# Altium integrated library ON Semi ESD Protection Diodes & Arrays.IntLib: 286 symbols (part 6 of 8)
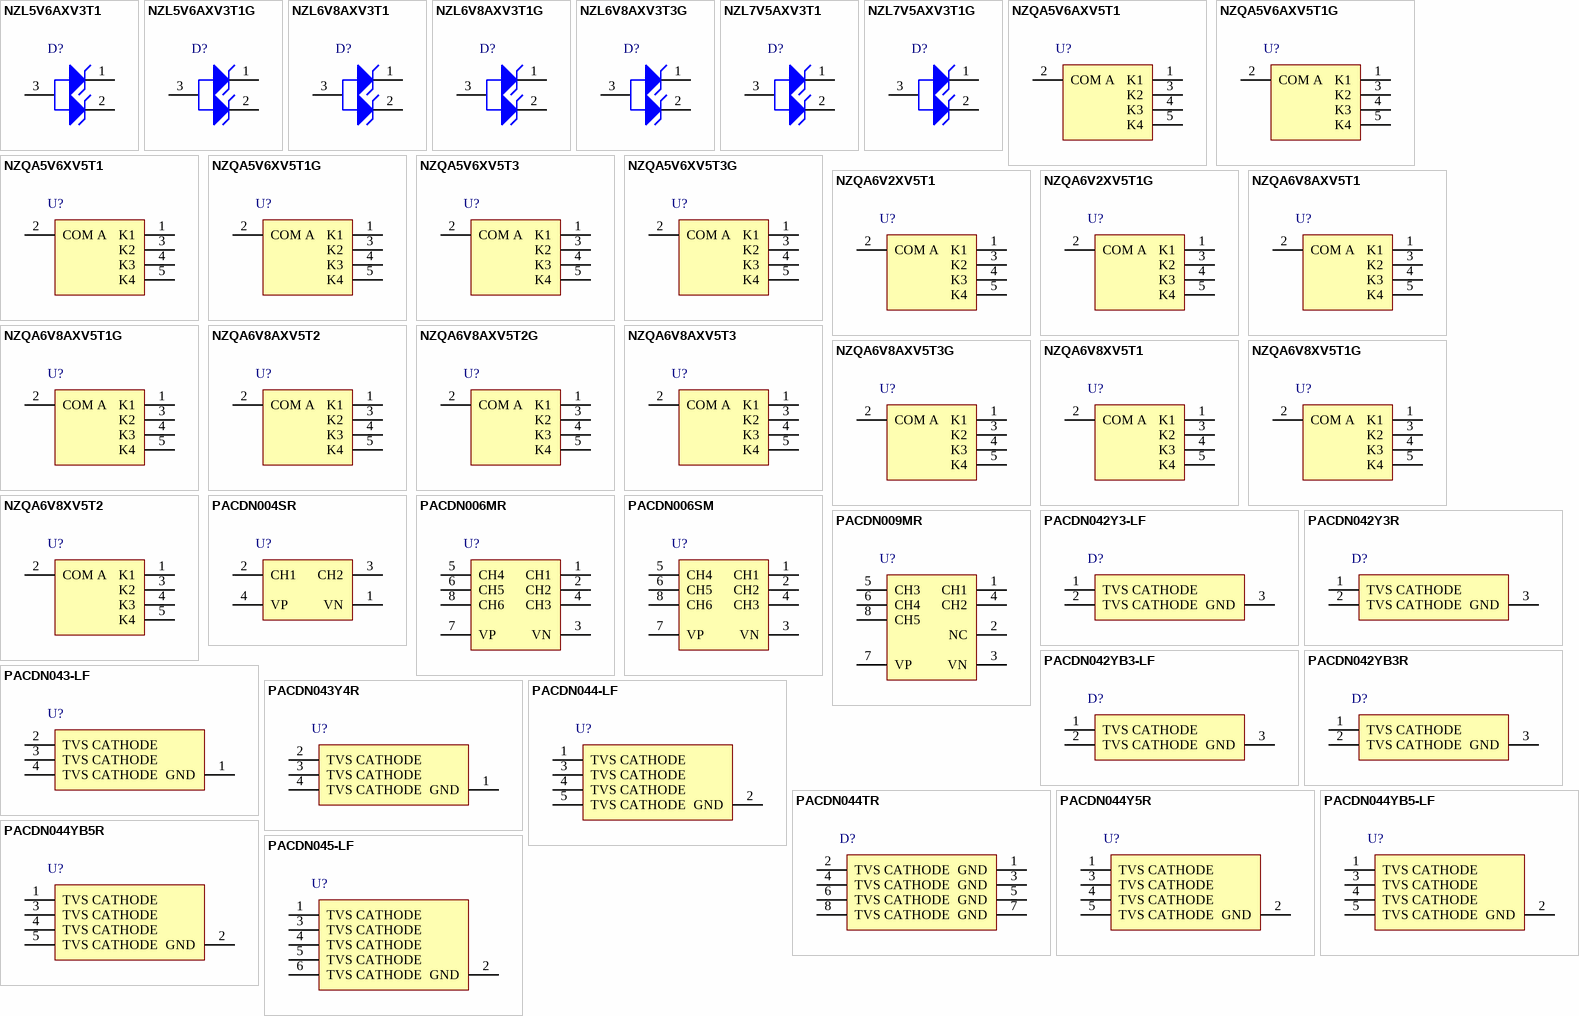
[diagram p12: symbols NZL5V6AXV3T1 to PACDN045-LF]

## NZL5V6AXV3T1G
designator D?
Dual Common Anode ESD Protection Diode, 3-Pin SC-89, Pb-Free, Tape and Reel; Manufacturer: On Semiconductor; PartNumber: NZL5V6AXV3T1G; Direction: Unidirectional; IR Max (uA): 5; Number of Lines: 2; V(BR) Min (V): 5.32; VRWM Max (V): 3; DatasheetVersion: Rev. 5; PackageVersion: Rev. C, 07/2003; PackageReference: SC-89-3-463C-02; PackageDescription: 3-Pin Small Outline Transistor, Body 1.6 x 0.85 mm, Pitch 0.5 mm; Supplier 1: Digi-Key; Supplier Part Number 1: NZL5V6AXV3T1GOSTR-ND; Supplier 2: Digi-Key; Supplier Part Number 2: NZL5V6AXV3T1GOSCT-ND; Supplier 3: Digi-Key; Supplier Part Number 3: NZL5V6AXV3T1GOSDKR-ND; Supplier 4: Newark; Supplier Part Number 4: 10N9595; Supplier 5: Newark; Supplier Part Number 5: 42K2488; Supplier 6: Mouser; Supplier Part Number 6: 863-NZL5V6AXV3T1G; Packing: Tape and Reel; RoHS: Pb-Free; Mounting Technology: Surface Mount; ComponentLink1Description: Manufacturer URL; ComponentLink1URL: http://www.onsemi.com/; ComponentLink2Description: Datasheet; ComponentLink2URL: http://www.onsemi.com/pub_link/Collateral/NZL5V6AXV3T1-D.PDF; ComponentLink3Description: Package Specification; ComponentLink3URL: http://www.onsemi.com/pub_link/Collateral/463C-02.PDF
footprint ONSC-SC-89-3-463C-02_V (SOT23, 3-Leads, Body 1.6x0.85mm, Pitch 0.5mm)
pins: 1 K1, 2 K2, 3 A

## NZL6V8AXV3T1
designator D?
Dual Common Anode ESD Protection Diode, 3-Pin SC-89, Pb-Free, Tape and Reel; Manufacturer: On Semiconductor; PartNumber: NZL6V8AXV3T1; Direction: Unidirectional; IR Max (uA): 1; Number of Lines: 2; V(BR) Min (V): 6.46; VRWM Max (V): 4.5; DatasheetVersion: Rev. 5; PackageVersion: Rev. C, 07/2003; PackageReference: SC-89-3-463C-02; PackageDescription: 3-Pin Small Outline Transistor, Body 1.6 x 0.85 mm, Pitch 0.5 mm; Supplier 1: Digi-Key; Supplier Part Number 1: NZL6V8AXV3T1OSTR-ND; Supplier 2: Digi-Key; Supplier Part Number 2: NZL6V8AXV3T1OSCT-ND; Supplier 3: Mouser; Supplier Part Number 3: N/A; Packing: Tape and Reel; RoHS: Pb-Free; Mounting Technology: Surface Mount; ComponentLink1Description: Manufacturer URL; ComponentLink1URL: http://www.onsemi.com/; ComponentLink2Description: Datasheet; ComponentLink2URL: http://www.onsemi.com/pub_link/Collateral/NZL5V6AXV3T1-D.PDF; ComponentLink3Description: Package Specification; ComponentLink3URL: http://www.onsemi.com/pub_link/Collateral/463C-02.PDF
footprint ONSC-SC-89-3-463C-02_V (SOT23, 3-Leads, Body 1.6x0.85mm, Pitch 0.5mm)
pins: 1 K1, 2 K2, 3 A

## NZL6V8AXV3T1G
designator D?
Dual Common Anode ESD Protection Diode, 3-Pin SC-89, Pb-Free, Tape and Reel; Manufacturer: On Semiconductor; PartNumber: NZL6V8AXV3T1G; Direction: Unidirectional; IR Max (uA): 1; Number of Lines: 2; V(BR) Min (V): 6.46; VRWM Max (V): 4.5; DatasheetVersion: Rev. 5; PackageVersion: Rev. C, 07/2003; PackageReference: SC-89-3-463C-02; PackageDescription: 3-Pin Small Outline Transistor, Body 1.6 x 0.85 mm, Pitch 0.5 mm; Supplier 1: Digi-Key; Supplier Part Number 1: NZL6V8AXV3T1GOSTR-ND; Supplier 2: Digi-Key; Supplier Part Number 2: NZL6V8AXV3T1GOSCT-ND; Supplier 3: Digi-Key; Supplier Part Number 3: NZL6V8AXV3T1GOSDKR-ND; Supplier 4: Newark; Supplier Part Number 4: 10N9596; Supplier 5: Mouser; Supplier Part Number 5: 863-NZL6V8AXV3T1G; Packing: Tape and Reel; RoHS: Pb-Free; Mounting Technology: Surface Mount; ComponentLink1Description: Manufacturer URL; ComponentLink1URL: http://www.onsemi.com/; ComponentLink2Description: Datasheet; ComponentLink2URL: http://www.onsemi.com/pub_link/Collateral/NZL5V6AXV3T1-D.PDF; ComponentLink3Description: Package Specification; ComponentLink3URL: http://www.onsemi.com/pub_link/Collateral/463C-02.PDF
footprint ONSC-SC-89-3-463C-02_V (SOT23, 3-Leads, Body 1.6x0.85mm, Pitch 0.5mm)
pins: 1 K1, 2 K2, 3 A

## NZL6V8AXV3T3G
designator D?
Dual Common Anode ESD Protection Diode, 3-Pin SC-89, Pb-Free, Tape and Reel; Manufacturer: On Semiconductor; PartNumber: NZL6V8AXV3T3G; Direction: Unidirectional; IR Max (uA): 1; Number of Lines: 2; V(BR) Min (V): 6.46; VRWM Max (V): 4.5; DatasheetVersion: Rev. 5; PackageVersion: Rev. C, 07/2003; PackageReference: SC-89-3-463C-02; PackageDescription: 3-Pin Small Outline Transistor, Body 1.6 x 0.85 mm, Pitch 0.5 mm; Supplier 1: Mouser; Supplier Part Number 1: 863-NZL6V8AXV3T3G; Packing: Tape and Reel; RoHS: Pb-Free; Mounting Technology: Surface Mount; ComponentLink1Description: Manufacturer URL; ComponentLink1URL: http://www.onsemi.com/; ComponentLink2Description: Datasheet; ComponentLink2URL: http://www.onsemi.com/pub_link/Collateral/NZL5V6AXV3T1-D.PDF; ComponentLink3Description: Package Specification; ComponentLink3URL: http://www.onsemi.com/pub_link/Collateral/463C-02.PDF
footprint ONSC-SC-89-3-463C-02_V (SOT23, 3-Leads, Body 1.6x0.85mm, Pitch 0.5mm)
pins: 1 K1, 2 K2, 3 A

## NZL7V5AXV3T1
designator D?
Dual Common Anode ESD Protection Diode, 3-Pin SC-89, Pb-Free, Tape and Reel; Manufacturer: On Semiconductor; PartNumber: NZL7V5AXV3T1; Direction: Unidirectional; IR Max (uA): 1; Number of Lines: 2; V(BR) Min (V): 7.12; VRWM Max (V): 5; DatasheetVersion: Rev. 5; PackageVersion: Rev. C, 07/2003; PackageReference: SC-89-3-463C-02; PackageDescription: 3-Pin Small Outline Transistor, Body 1.6 x 0.85 mm, Pitch 0.5 mm; Supplier 1: Digi-Key; Supplier Part Number 1: NZL7V5AXV3T1OSTR-ND; Supplier 2: Digi-Key; Supplier Part Number 2: NZL7V5AXV3T1OSCT-ND; Supplier 3: Mouser; Supplier Part Number 3: N/A; Packing: Tape and Reel; RoHS: Pb-Free; Mounting Technology: Surface Mount; ComponentLink1Description: Manufacturer URL; ComponentLink1URL: http://www.onsemi.com/; ComponentLink2Description: Datasheet; ComponentLink2URL: http://www.onsemi.com/pub_link/Collateral/NZL5V6AXV3T1-D.PDF; ComponentLink3Description: Package Specification; ComponentLink3URL: http://www.onsemi.com/pub_link/Collateral/463C-02.PDF
footprint ONSC-SC-89-3-463C-02_V (SOT23, 3-Leads, Body 1.6x0.85mm, Pitch 0.5mm)
pins: 1 K1, 2 K2, 3 A

## NZL7V5AXV3T1G
designator D?
Dual Common Anode ESD Protection Diode, 3-Pin SC-89, Pb-Free, Tape and Reel; Manufacturer: On Semiconductor; PartNumber: NZL7V5AXV3T1G; Direction: Unidirectional; IR Max (uA): 1; Number of Lines: 2; V(BR) Min (V): 7.12; VRWM Max (V): 5; DatasheetVersion: Rev. 5; PackageVersion: Rev. C, 07/2003; PackageReference: SC-89-3-463C-02; PackageDescription: 3-Pin Small Outline Transistor, Body 1.6 x 0.85 mm, Pitch 0.5 mm; Supplier 1: Digi-Key; Supplier Part Number 1: NZL7V5AXV3T1GOSTR-ND; Supplier 2: Digi-Key; Supplier Part Number 2: NZL7V5AXV3T1GOSCT-ND; Supplier 3: Digi-Key; Supplier Part Number 3: NZL7V5AXV3T1GOSDKR-ND; Supplier 4: Newark; Supplier Part Number 4: 42K2490; Supplier 5: Mouser; Supplier Part Number 5: 863-NZL7V5AXV3T1G; Packing: Tape and Reel; RoHS: Pb-Free; Mounting Technology: Surface Mount; ComponentLink1Description: Manufacturer URL; ComponentLink1URL: http://www.onsemi.com/; ComponentLink2Description: Datasheet; ComponentLink2URL: http://www.onsemi.com/pub_link/Collateral/NZL5V6AXV3T1-D.PDF; ComponentLink3Description: Package Specification; ComponentLink3URL: http://www.onsemi.com/pub_link/Collateral/463C-02.PDF
footprint ONSC-SC-89-3-463C-02_V (SOT23, 3-Leads, Body 1.6x0.85mm, Pitch 0.5mm)
pins: 1 K1, 2 K2, 3 A

## NZQA5V6AXV5T1
designator U?
Transient Voltage Suppressor, ESD Protection Diode with Low Clamping Voltage, 5-Pin SOT-553, Pb-Free, Tape and Reel; Manufacturer: On Semiconductor; PartNumber: NZQA5V6AXV5T1; Direction: Unidirectional; IR Max (uA): 1; Number of Lines: 4; PPK Max (W): 20; V(BR) Min (V): 5.3; VRWM Max (V): 3; DatasheetVersion: Rev. 7; PackageVersion: Rev. B, 05/2005; PackageReference: SOT-553-5-463B_B; PackageDescription: 5-Pin Small Outline Transistor, Body 1.6 x 1.2 mm, Pitch 0.5 mm; Supplier 1: Digi-Key; Supplier Part Number 1: NZQA5V6AXV5T1-ND; Supplier 2: Mouser; Supplier Part Number 2: 863-NZQA5V6AXV5T1; Packing: Tape and Reel; RoHS: Pb-Free; Mounting Technology: Surface Mount; ComponentLink1Description: Manufacturer URL; ComponentLink1URL: http://www.onsemi.com/; ComponentLink2Description: Datasheet; ComponentLink2URL: http://www.onsemi.com/pub_link/Collateral/NZQA5V6AXV5%20SERIES-D.PDF; ComponentLink3Description: Package Specification; ComponentLink3URL: http://www.onsemi.com/pub_link/Collateral/NZQA5V6AXV5%20SERIES-D.PDF
footprint ONSC-SOT-553-5-463B_B_V (SOT23, 5-Leads, Body 1.6x1.2mm, Pitch 0.5mm)
pins: 1 K1, 2 COM A, 3 K2, 4 K3, 5 K4

## NZQA5V6AXV5T1G
designator U?
Transient Voltage Suppressor, ESD Protection Diode with Low Clamping Voltage, 5-Pin SOT-553, Pb-Free, Tape and Reel; Manufacturer: On Semiconductor; PartNumber: NZQA5V6AXV5T1G; Direction: Unidirectional; IR Max (uA): 1; Number of Lines: 4; PPK Max (W): 20; V(BR) Min (V): 5.3; VRWM Max (V): 3; DatasheetVersion: Rev. 7; PackageVersion: Rev. B, 05/2005; PackageReference: SOT-553-5-463B_B; PackageDescription: 5-Pin Small Outline Transistor, Body 1.6 x 1.2 mm, Pitch 0.5 mm; Supplier 1: Digi-Key; Supplier Part Number 1: NZQA5V6AXV5T1GOSTR-ND; Supplier 2: Digi-Key; Supplier Part Number 2: NZQA5V6AXV5T1GOSCT-ND; Supplier 3: Digi-Key; Supplier Part Number 3: NZQA5V6AXV5T1GOSDKR-ND; Supplier 4: Newark; Supplier Part Number 4: 10N9728; Supplier 5: Mouser; Supplier Part Number 5: 863-NZQA5V6AXV5T1G; Packing: Tape and Reel; RoHS: Pb-Free; Mounting Technology: Surface Mount; ComponentLink1Description: Manufacturer URL; ComponentLink1URL: http://www.onsemi.com/; ComponentLink2Description: Datasheet; ComponentLink2URL: http://www.onsemi.com/pub_link/Collateral/NZQA5V6AXV5%20SERIES-D.PDF; ComponentLink3Description: Package Specification; ComponentLink3URL: http://www.onsemi.com/pub_link/Collateral/NZQA5V6AXV5%20SERIES-D.PDF
footprint ONSC-SOT-553-5-463B_B_V (SOT23, 5-Leads, Body 1.6x1.2mm, Pitch 0.5mm)
pins: 1 K1, 2 COM A, 3 K2, 4 K3, 5 K4

## NZQA5V6XV5T1
designator U?
Quad Array for ESD Protection, 5-Pin SOT-553, Pb-Free, Tape and Reel; Manufacturer: On Semiconductor; PartNumber: NZQA5V6XV5T1; C Max (pF): 90; Direction: Unidirectional; IR Max (uA): 1; Number of Lines: 4; PPK Max (W): 100; V(BR) Min (V): 5.32; VRWM Max (V): 3; DatasheetVersion: Rev. 3; PackageVersion: Rev. B, 05/2005; PackageReference: SOT-553-5-463B_B; PackageDescription: 5-Pin Small Outline Transistor, Body 1.6 x 1.2 mm, Pitch 0.5 mm; Supplier 1: Digi-Key; Supplier Part Number 1: NZQA5V6XV5T1OS-ND; Supplier 2: Mouser; Supplier Part Number 2: 863-NZQA5V6XV5T1; Packing: Tape and Reel; RoHS: Pb-Free; Mounting Technology: Surface Mount; ComponentLink1Description: Manufacturer URL; ComponentLink1URL: http://www.onsemi.com/; ComponentLink2Description: Datasheet; ComponentLink2URL: http://www.onsemi.com/pub_link/Collateral/NZQA5V6XV5T1-D.PDF; ComponentLink3Description: Package Specification; ComponentLink3URL: http://www.onsemi.com/pub_link/Collateral/NZQA5V6AXV5%20SERIES-D.PDF
footprint ONSC-SOT-553-5-463B_B_V (SOT23, 5-Leads, Body 1.6x1.2mm, Pitch 0.5mm)
pins: 1 K1, 2 COM A, 3 K2, 4 K3, 5 K4

## NZQA5V6XV5T1G
designator U?
Quad Array for ESD Protection, 5-Pin SOT-553, Pb-Free, Tape and Reel; Manufacturer: On Semiconductor; PartNumber: NZQA5V6XV5T1G; C Max (pF): 90; Direction: Unidirectional; IR Max (uA): 1; Number of Lines: 4; PPK Max (W): 100; V(BR) Min (V): 5.32; VRWM Max (V): 3; DatasheetVersion: Rev. 3; PackageVersion: Rev. B, 05/2005; PackageReference: SOT-553-5-463B_B; PackageDescription: 5-Pin Small Outline Transistor, Body 1.6 x 1.2 mm, Pitch 0.5 mm; Supplier 1: Digi-Key; Supplier Part Number 1: NZQA5V6XV5T1GOSTR-ND; Supplier 2: Digi-Key; Supplier Part Number 2: NZQA5V6XV5T1GOSCT-ND; Supplier 3: Digi-Key; Supplier Part Number 3: NZQA5V6XV5T1GOSDKR-ND; Supplier 4: Farnell; Supplier Part Number 4: 1899526; Supplier 5: Newark; Supplier Part Number 5: 09R9675; Supplier 6: Mouser; Supplier Part Number 6: 863-NZQA5V6XV5T1G; Packing: Tape and Reel; RoHS: Pb-Free; Mounting Technology: Surface Mount; ComponentLink1Description: Manufacturer URL; ComponentLink1URL: http://www.onsemi.com/; ComponentLink2Description: Datasheet; ComponentLink2URL: http://www.onsemi.com/pub_link/Collateral/NZQA5V6XV5T1-D.PDF; ComponentLink3Description: Package Specification; ComponentLink3URL: http://www.onsemi.com/pub_link/Collateral/NZQA5V6AXV5%20SERIES-D.PDF
footprint ONSC-SOT-553-5-463B_B_V (SOT23, 5-Leads, Body 1.6x1.2mm, Pitch 0.5mm)
pins: 1 K1, 2 COM A, 3 K2, 4 K3, 5 K4

## NZQA5V6XV5T3
designator U?
Quad Array for ESD Protection, 5-Pin SOT-553, Pb-Free, Tape and Reel; Manufacturer: On Semiconductor; PartNumber: NZQA5V6XV5T3; C Max (pF): 90; Direction: Unidirectional; IR Max (uA): 1; Number of Lines: 4; PPK Max (W): 100; V(BR) Min (V): 5.32; VRWM Max (V): 3; DatasheetVersion: Rev. 3; PackageVersion: Rev. B, 05/2005; PackageReference: SOT-553-5-463B_B; PackageDescription: 5-Pin Small Outline Transistor, Body 1.6 x 1.2 mm, Pitch 0.5 mm; Supplier 1: Digi-Key; Supplier Part Number 1: NZQA5V6XV5T3-ND; Supplier 2: Mouser; Supplier Part Number 2: 863-NZQA5V6XV5T3; Packing: Tape and Reel; RoHS: Pb-Free; Mounting Technology: Surface Mount; ComponentLink1Description: Manufacturer URL; ComponentLink1URL: http://www.onsemi.com/; ComponentLink2Description: Datasheet; ComponentLink2URL: http://www.onsemi.com/pub_link/Collateral/NZQA5V6XV5T1-D.PDF; ComponentLink3Description: Package Specification; ComponentLink3URL: http://www.onsemi.com/pub_link/Collateral/NZQA5V6AXV5%20SERIES-D.PDF
footprint ONSC-SOT-553-5-463B_B_V (SOT23, 5-Leads, Body 1.6x1.2mm, Pitch 0.5mm)
pins: 1 K1, 2 COM A, 3 K2, 4 K3, 5 K4

## NZQA5V6XV5T3G
designator U?
Quad Array for ESD Protection, 5-Pin SOT-553, Pb-Free, Tape and Reel; Manufacturer: On Semiconductor; PartNumber: NZQA5V6XV5T3G; C Max (pF): 90; Direction: Unidirectional; IR Max (uA): 1; Number of Lines: 4; PPK Max (W): 100; V(BR) Min (V): 5.32; VRWM Max (V): 3; DatasheetVersion: Rev. 3; PackageVersion: Rev. B, 05/2005; PackageReference: SOT-553-5-463B_B; PackageDescription: 5-Pin Small Outline Transistor, Body 1.6 x 1.2 mm, Pitch 0.5 mm; Supplier 1: Digi-Key; Supplier Part Number 1: NZQA5V6XV5T3G-ND; Supplier 2: Mouser; Supplier Part Number 2: 863-NZQA5V6XV5T3G; Packing: Tape and Reel; RoHS: Pb-Free; Mounting Technology: Surface Mount; ComponentLink1Description: Manufacturer URL; ComponentLink1URL: http://www.onsemi.com/; ComponentLink2Description: Datasheet; ComponentLink2URL: http://www.onsemi.com/pub_link/Collateral/NZQA5V6XV5T1-D.PDF; ComponentLink3Description: Package Specification; ComponentLink3URL: http://www.onsemi.com/pub_link/Collateral/NZQA5V6AXV5%20SERIES-D.PDF
footprint ONSC-SOT-553-5-463B_B_V (SOT23, 5-Leads, Body 1.6x1.2mm, Pitch 0.5mm)
pins: 1 K1, 2 COM A, 3 K2, 4 K3, 5 K4

## NZQA6V2XV5T1
designator U?
Quad Array for ESD Protection, 5-Pin SOT-553, Pb-Free, Tape and Reel; Manufacturer: On Semiconductor; PartNumber: NZQA6V2XV5T1; C Max (pF): 80; Direction: Unidirectional; IR Max (uA): 0.5; Number of Lines: 4; PPK Max (W): 100; V(BR) Min (V): 5.89; DatasheetVersion: Rev. 3; PackageVersion: Rev. B, 05/2005; PackageReference: SOT-553-5-463B_B; PackageDescription: 5-Pin Small Outline Transistor, Body 1.6 x 1.2 mm, Pitch 0.5 mm; Supplier 1: Digi-Key; Supplier Part Number 1: NZQA6V2XV5T1OS-ND; Supplier 2: Mouser; Supplier Part Number 2: N/A; Packing: Tape and Reel; RoHS: Pb-Free; VRWM Max (V): 4; Mounting Technology: Surface Mount; ComponentLink1Description: Manufacturer URL; ComponentLink1URL: http://www.onsemi.com/; ComponentLink2Description: Datasheet; ComponentLink2URL: http://www.onsemi.com/pub_link/Collateral/NZQA5V6XV5T1-D.PDF; ComponentLink3Description: Package Specification; ComponentLink3URL: http://www.onsemi.com/pub_link/Collateral/NZQA5V6AXV5%20SERIES-D.PDF
footprint ONSC-SOT-553-5-463B_B_V (SOT23, 5-Leads, Body 1.6x1.2mm, Pitch 0.5mm)
pins: 1 K1, 2 COM A, 3 K2, 4 K3, 5 K4

## NZQA6V2XV5T1G
designator U?
Quad Array for ESD Protection, 5-Pin SOT-553, Pb-Free, Tape and Reel; Manufacturer: On Semiconductor; PartNumber: NZQA6V2XV5T1G; C Max (pF): 80; Direction: Unidirectional; IR Max (uA): 0.5; Number of Lines: 4; PPK Max (W): 100; V(BR) Min (V): 5.89; DatasheetVersion: Rev. 3; PackageVersion: Rev. B, 05/2005; PackageReference: SOT-553-5-463B_B; PackageDescription: 5-Pin Small Outline Transistor, Body 1.6 x 1.2 mm, Pitch 0.5 mm; Supplier 1: Digi-Key; Supplier Part Number 1: NZQA6V2XV5T1G-ND; Supplier 2: Mouser; Supplier Part Number 2: 863-NZQA6V2XV5T1G; Packing: Tape and Reel; RoHS: Pb-Free; VRWM Max (V): 4; Mounting Technology: Surface Mount; ComponentLink1Description: Manufacturer URL; ComponentLink1URL: http://www.onsemi.com/; ComponentLink2Description: Datasheet; ComponentLink2URL: http://www.onsemi.com/pub_link/Collateral/NZQA5V6XV5T1-D.PDF; ComponentLink3Description: Package Specification; ComponentLink3URL: http://www.onsemi.com/pub_link/Collateral/NZQA5V6AXV5%20SERIES-D.PDF
footprint ONSC-SOT-553-5-463B_B_V (SOT23, 5-Leads, Body 1.6x1.2mm, Pitch 0.5mm)
pins: 1 K1, 2 COM A, 3 K2, 4 K3, 5 K4

## NZQA6V8AXV5T1
designator U?
Transient Voltage Suppressor, ESD Protection Diode with Low Clamping Voltage, 5-Pin SOT-553, Pb-Free, Tape and Reel; Manufacturer: On Semiconductor; PartNumber: NZQA6V8AXV5T1; Direction: Unidirectional; IR Max (uA): 1; Number of Lines: 4; PPK Max (W): 20; V(BR) Min (V): 6.47; VRWM Max (V): 4.3; DatasheetVersion: Rev. 7; PackageVersion: Rev. B, 05/2005; PackageReference: SOT-553-5-463B_B; PackageDescription: 5-Pin Small Outline Transistor, Body 1.6 x 1.2 mm, Pitch 0.5 mm; Supplier 1: Digi-Key; Supplier Part Number 1: NZQA6V8AXV5T1OS-ND; Supplier 2: Mouser; Supplier Part Number 2: 863-NZQA6V8AXV5T1; Packing: Tape and Reel; RoHS: Pb-Free; Mounting Technology: Surface Mount; ComponentLink1Description: Manufacturer URL; ComponentLink1URL: http://www.onsemi.com/; ComponentLink2Description: Datasheet; ComponentLink2URL: http://www.onsemi.com/pub_link/Collateral/NZQA5V6AXV5%20SERIES-D.PDF; ComponentLink3Description: Package Specification; ComponentLink3URL: http://www.onsemi.com/pub_link/Collateral/NZQA5V6AXV5%20SERIES-D.PDF
footprint ONSC-SOT-553-5-463B_B_V (SOT23, 5-Leads, Body 1.6x1.2mm, Pitch 0.5mm)
pins: 1 K1, 2 COM A, 3 K2, 4 K3, 5 K4

## NZQA6V8AXV5T1G
designator U?
Transient Voltage Suppressor, ESD Protection Diode with Low Clamping Voltage, 5-Pin SOT-553, Pb-Free, Tape and Reel; Manufacturer: On Semiconductor; PartNumber: NZQA6V8AXV5T1G; Direction: Unidirectional; IR Max (uA): 1; Number of Lines: 4; PPK Max (W): 20; V(BR) Min (V): 6.47; VRWM Max (V): 4.3; DatasheetVersion: Rev. 7; PackageVersion: Rev. B, 05/2005; PackageReference: SOT-553-5-463B_B; PackageDescription: 5-Pin Small Outline Transistor, Body 1.6 x 1.2 mm, Pitch 0.5 mm; Supplier 1: Digi-Key; Supplier Part Number 1: NZQA6V8AXV5T1GOSTR-ND; Supplier 2: Digi-Key; Supplier Part Number 2: NZQA6V8AXV5T1GOSCT-ND; Supplier 3: Digi-Key; Supplier Part Number 3: NZQA6V8AXV5T1GOSDKR-ND; Supplier 4: Mouser; Supplier Part Number 4: 863-NZQA6V8AXV5T1G; Packing: Tape and Reel; RoHS: Pb-Free; Mounting Technology: Surface Mount; ComponentLink1Description: Manufacturer URL; ComponentLink1URL: http://www.onsemi.com/; ComponentLink2Description: Datasheet; ComponentLink2URL: http://www.onsemi.com/pub_link/Collateral/NZQA5V6AXV5%20SERIES-D.PDF; ComponentLink3Description: Package Specification; ComponentLink3URL: http://www.onsemi.com/pub_link/Collateral/NZQA5V6AXV5%20SERIES-D.PDF
footprint ONSC-SOT-553-5-463B_B_V (SOT23, 5-Leads, Body 1.6x1.2mm, Pitch 0.5mm)
pins: 1 K1, 2 COM A, 3 K2, 4 K3, 5 K4

## NZQA6V8AXV5T2
designator U?
Transient Voltage Suppressor, ESD Protection Diode with Low Clamping Voltage, 5-Pin SOT-553, Pb-Free, Tape and Reel; Manufacturer: On Semiconductor; PartNumber: NZQA6V8AXV5T2; Direction: Unidirectional; IR Max (uA): 1; Number of Lines: 4; PPK Max (W): 20; V(BR) Min (V): 6.47; VRWM Max (V): 4.3; DatasheetVersion: Rev. 7; PackageVersion: Rev. B, 05/2005; PackageReference: SOT-553-5-463B_B; PackageDescription: 5-Pin Small Outline Transistor, Body 1.6 x 1.2 mm, Pitch 0.5 mm; Supplier 1: Digi-Key; Supplier Part Number 1: NZQA6V8AXV5T2-ND; Supplier 2: Mouser; Supplier Part Number 2: 863-NZQA6V8AXV5T2; Packing: Tape and Reel; RoHS: Pb-Free; Mounting Technology: Surface Mount; ComponentLink1Description: Manufacturer URL; ComponentLink1URL: http://www.onsemi.com/; ComponentLink2Description: Datasheet; ComponentLink2URL: http://www.onsemi.com/pub_link/Collateral/NZQA5V6AXV5%20SERIES-D.PDF; ComponentLink3Description: Package Specification; ComponentLink3URL: http://www.onsemi.com/pub_link/Collateral/NZQA5V6AXV5%20SERIES-D.PDF
footprint ONSC-SOT-553-5-463B_B_V (SOT23, 5-Leads, Body 1.6x1.2mm, Pitch 0.5mm)
pins: 1 K1, 2 COM A, 3 K2, 4 K3, 5 K4

## NZQA6V8AXV5T2G
designator U?
Transient Voltage Suppressor, ESD Protection Diode with Low Clamping Voltage, 5-Pin SOT-553, Pb-Free, Tape and Reel; Manufacturer: On Semiconductor; PartNumber: NZQA6V8AXV5T2G; Direction: Unidirectional; IR Max (uA): 1; Number of Lines: 4; PPK Max (W): 20; V(BR) Min (V): 6.47; VRWM Max (V): 4.3; DatasheetVersion: Rev. 7; PackageVersion: Rev. B, 05/2005; PackageReference: SOT-553-5-463B_B; PackageDescription: 5-Pin Small Outline Transistor, Body 1.6 x 1.2 mm, Pitch 0.5 mm; Supplier 1: Digi-Key; Supplier Part Number 1: NZQA6V8AXV5T2G-ND; Supplier 2: Mouser; Supplier Part Number 2: 863-NZQA6V8AXV5T2G; Packing: Tape and Reel; RoHS: Pb-Free; Mounting Technology: Surface Mount; ComponentLink1Description: Manufacturer URL; ComponentLink1URL: http://www.onsemi.com/; ComponentLink2Description: Datasheet; ComponentLink2URL: http://www.onsemi.com/pub_link/Collateral/NZQA5V6AXV5%20SERIES-D.PDF; ComponentLink3Description: Package Specification; ComponentLink3URL: http://www.onsemi.com/pub_link/Collateral/NZQA5V6AXV5%20SERIES-D.PDF
footprint ONSC-SOT-553-5-463B_B_V (SOT23, 5-Leads, Body 1.6x1.2mm, Pitch 0.5mm)
pins: 1 K1, 2 COM A, 3 K2, 4 K3, 5 K4

## NZQA6V8AXV5T3
designator U?
Transient Voltage Suppressor, ESD Protection Diode with Low Clamping Voltage, 5-Pin SOT-553, Pb-Free, Tape and Reel; Manufacturer: On Semiconductor; PartNumber: NZQA6V8AXV5T3; Direction: Unidirectional; IR Max (uA): 1; Number of Lines: 4; PPK Max (W): 20; V(BR) Min (V): 6.47; VRWM Max (V): 4.3; DatasheetVersion: Rev. 7; PackageVersion: Rev. B, 05/2005; PackageReference: SOT-553-5-463B_B; PackageDescription: 5-Pin Small Outline Transistor, Body 1.6 x 1.2 mm, Pitch 0.5 mm; Supplier 1: Digi-Key; Supplier Part Number 1: NZQA6V8AXV5T3-ND; Supplier 2: Mouser; Supplier Part Number 2: 863-NZQA6V8AXV5T3; Packing: Tape and Reel; RoHS: Pb-Free; Mounting Technology: Surface Mount; ComponentLink1Description: Manufacturer URL; ComponentLink1URL: http://www.onsemi.com/; ComponentLink2Description: Datasheet; ComponentLink2URL: http://www.onsemi.com/pub_link/Collateral/NZQA5V6AXV5%20SERIES-D.PDF; ComponentLink3Description: Package Specification; ComponentLink3URL: http://www.onsemi.com/pub_link/Collateral/NZQA5V6AXV5%20SERIES-D.PDF
footprint ONSC-SOT-553-5-463B_B_V (SOT23, 5-Leads, Body 1.6x1.2mm, Pitch 0.5mm)
pins: 1 K1, 2 COM A, 3 K2, 4 K3, 5 K4

## NZQA6V8AXV5T3G
designator U?
Transient Voltage Suppressor, ESD Protection Diode with Low Clamping Voltage, 5-Pin SOT-553, Pb-Free, Tape and Reel; Manufacturer: On Semiconductor; PartNumber: NZQA6V8AXV5T3G; Direction: Unidirectional; IR Max (uA): 1; Number of Lines: 4; PPK Max (W): 20; V(BR) Min (V): 6.47; VRWM Max (V): 4.3; DatasheetVersion: Rev. 7; PackageVersion: Rev. B, 05/2005; PackageReference: SOT-553-5-463B_B; PackageDescription: 5-Pin Small Outline Transistor, Body 1.6 x 1.2 mm, Pitch 0.5 mm; Supplier 1: Digi-Key; Supplier Part Number 1: NZQA6V8AXV5T3GOSTR-ND; Supplier 2: Digi-Key; Supplier Part Number 2: NZQA6V8AXV5T3GOSCT-ND; Supplier 3: Mouser; Supplier Part Number 3: 863-NZQA6V8AXV5T3G; Packing: Tape and Reel; RoHS: Pb-Free; Mounting Technology: Surface Mount; ComponentLink1Description: Manufacturer URL; ComponentLink1URL: http://www.onsemi.com/; ComponentLink2Description: Datasheet; ComponentLink2URL: http://www.onsemi.com/pub_link/Collateral/NZQA5V6AXV5%20SERIES-D.PDF; ComponentLink3Description: Package Specification; ComponentLink3URL: http://www.onsemi.com/pub_link/Collateral/NZQA5V6AXV5%20SERIES-D.PDF
footprint ONSC-SOT-553-5-463B_B_V (SOT23, 5-Leads, Body 1.6x1.2mm, Pitch 0.5mm)
pins: 1 K1, 2 COM A, 3 K2, 4 K3, 5 K4

## NZQA6V8XV5T1
designator U?
Quad Array for ESD Protection, 5-Pin SOT-553, Pb-Free, Tape and Reel; Manufacturer: On Semiconductor; PartNumber: NZQA6V8XV5T1; C Max (pF): 70; Direction: Unidirectional; IR Max (uA): 0.1; Number of Lines: 4; PPK Max (W): 100; V(BR) Min (V): 6.46; VRWM Max (V): 4.3; DatasheetVersion: Rev. 3; PackageVersion: Rev. B, 05/2005; PackageReference: SOT-553-5-463B_B; PackageDescription: 5-Pin Small Outline Transistor, Body 1.6 x 1.2 mm, Pitch 0.5 mm; Supplier 1: Digi-Key; Supplier Part Number 1: NZQA6V8XV5T1OS-ND; Supplier 2: Mouser; Supplier Part Number 2: 863-NZQA6V8XV5T1; Packing: Tape and Reel; RoHS: Pb-Free; Mounting Technology: Surface Mount; ComponentLink1Description: Manufacturer URL; ComponentLink1URL: http://www.onsemi.com/; ComponentLink2Description: Datasheet; ComponentLink2URL: http://www.onsemi.com/pub_link/Collateral/NZQA5V6XV5T1-D.PDF; ComponentLink3Description: Package Specification; ComponentLink3URL: http://www.onsemi.com/pub_link/Collateral/NZQA5V6AXV5%20SERIES-D.PDF
footprint ONSC-SOT-553-5-463B_B_V (SOT23, 5-Leads, Body 1.6x1.2mm, Pitch 0.5mm)
pins: 1 K1, 2 COM A, 3 K2, 4 K3, 5 K4

## NZQA6V8XV5T1G
designator U?
Quad Array for ESD Protection, 5-Pin SOT-553, Pb-Free, Tape and Reel; Manufacturer: On Semiconductor; PartNumber: NZQA6V8XV5T1G; C Max (pF): 70; Direction: Unidirectional; IR Max (uA): 0.1; Number of Lines: 4; PPK Max (W): 100; V(BR) Min (V): 6.46; VRWM Max (V): 4.3; DatasheetVersion: Rev. 3; PackageVersion: Rev. B, 05/2005; PackageReference: SOT-553-5-463B_B; PackageDescription: 5-Pin Small Outline Transistor, Body 1.6 x 1.2 mm, Pitch 0.5 mm; Supplier 1: Digi-Key; Supplier Part Number 1: NZQA6V8XV5T1GOSTR-ND; Supplier 2: Digi-Key; Supplier Part Number 2: NZQA6V8XV5T1GOSCT-ND; Supplier 3: Mouser; Supplier Part Number 3: 863-NZQA6V8XV5T1G; Packing: Tape and Reel; RoHS: Pb-Free; Mounting Technology: Surface Mount; ComponentLink1Description: Manufacturer URL; ComponentLink1URL: http://www.onsemi.com/; ComponentLink2Description: Datasheet; ComponentLink2URL: http://www.onsemi.com/pub_link/Collateral/NZQA5V6XV5T1-D.PDF; ComponentLink3Description: Package Specification; ComponentLink3URL: http://www.onsemi.com/pub_link/Collateral/NZQA5V6AXV5%20SERIES-D.PDF
footprint ONSC-SOT-553-5-463B_B_V (SOT23, 5-Leads, Body 1.6x1.2mm, Pitch 0.5mm)
pins: 1 K1, 2 COM A, 3 K2, 4 K3, 5 K4

## NZQA6V8XV5T2
designator U?
Quad Array for ESD Protection, 5-Pin SOT-553, Pb-Free, Tape and Reel; Manufacturer: On Semiconductor; PartNumber: NZQA6V8XV5T2; C Max (pF): 70; Direction: Unidirectional; IR Max (uA): 0.1; Number of Lines: 4; PPK Max (W): 100; V(BR) Min (V): 6.46; VRWM Max (V): 4.3; DatasheetVersion: Rev. 3; PackageVersion: Rev. B, 05/2005; PackageReference: SOT-553-5-463B_B; PackageDescription: 5-Pin Small Outline Transistor, Body 1.6 x 1.2 mm, Pitch 0.5 mm; Supplier 1: Digi-Key; Supplier Part Number 1: NZQA6V8XV5T2-ND; Supplier 2: Newark; Supplier Part Number 2: 45J2209; Supplier 3: Mouser; Supplier Part Number 3: 863-NZQA6V8XV5T2; Packing: Tape and Reel; RoHS: Pb-Free; Mounting Technology: Surface Mount; ComponentLink1Description: Manufacturer URL; ComponentLink1URL: http://www.onsemi.com/; ComponentLink2Description: Datasheet; ComponentLink2URL: http://www.onsemi.com/pub_link/Collateral/NZQA5V6XV5T1-D.PDF; ComponentLink3Description: Package Specification; ComponentLink3URL: http://www.onsemi.com/pub_link/Collateral/NZQA5V6AXV5%20SERIES-D.PDF
footprint ONSC-SOT-553-5-463B_B_V (SOT23, 5-Leads, Body 1.6x1.2mm, Pitch 0.5mm)
pins: 1 K1, 2 COM A, 3 K2, 4 K3, 5 K4

## PACDN004SR
designator U?
2-Channel ESD Protection Array, 4-Pin SOT-143, Pb-Free, Tape and Reel; Manufacturer: On Semiconductor; PartNumber: PACDN004SR; C Max (pF): 5; Direction: Unidirectional; IR Max (uA): 1; Number of Lines: 2; PPK Max (W): 0.225; DatasheetVersion: Rev. 4; PackageVersion: Rev. A, 03/2009; PackageReference: SOT-143-4-527AF-01; PackageDescription: 4-Pin Small Outline Transistor, Body 2.92 x 1.3 mm, Pitch 1.92 mm; Supplier 1: Digi-Key; Supplier Part Number 1: PACDN004SROSTR-ND; Supplier 2: Digi-Key; Supplier Part Number 2: PACDN004SROSCT-ND; Supplier 3: Digi-Key; Supplier Part Number 3: PACDN004SROSDKR-ND; Supplier 4: Newark; Supplier Part Number 4: 99R2893; Supplier 5: Mouser; Supplier Part Number 5: 748-PACDN004SR; Packing: Tape and Reel; RoHS: Pb-Free; Mounting Technology: Surface Mount; Code_JEDEC: TO-253; ComponentLink1Description: Manufacturer URL; ComponentLink1URL: http://www.onsemi.com/; ComponentLink2Description: Datasheet; ComponentLink2URL: http://www.onsemi.com/pub_link/Collateral/PACDN004-D.PDF; ComponentLink3Description: Package Specification; ComponentLink3URL: http://www.onsemi.com/pub_link/Collateral/527AF.PDF
footprint ONSC-SOT-143-4-527AF-01_N (SOT143, 4-Leads, Body 3.04x1.4mm, Pitch 1.92mm, IPC Medium Density)
footprint ONSC-SOT-143-4-527AF-01_L (SOT143, 4-Leads, Body 3.04x1.4mm, Pitch 1.92mm, IPC High Density)
footprint ONSC-SOT-143-4-527AF-01_M (SOT143, 4-Leads, Body 3.04x1.4mm, Pitch 1.92mm, IPC Low Density)
pins: 1 VN (power) "Negative Voltage Supply Rail or Ground Reference Rail", 2 CH1 "ESD Channel 1", 3 CH2 "ESD Channel 2", 4 VP (power) "Positive Voltage Supply Rail"

## PACDN006MR
designator U?
6-Channel ESD Protection Array, 8-Pin MICRO, Pb-Free, Tape and Reel; Manufacturer: On Semiconductor; PartNumber: PACDN006MR; C Max (pF): 5; Direction: Unidirectional; IR Max (uA): 1; Number of Lines: 6; PPK Max (W): 0.2; DatasheetVersion: Rev. 5; PackageVersion: Rev. J, 07/2013; PackageReference: MICRO-8-846A-02; PackageDescription: 8-Pin Small Outline Pacakge, Body 3 x 3 mm, Pitch 0.65 mm; Supplier 1: Digi-Key; Supplier Part Number 1: PACDN006MROSTR-ND; Supplier 2: Digi-Key; Supplier Part Number 2: PACDN006MROSCT-ND; Supplier 3: Digi-Key; Supplier Part Number 3: PACDN006MROSDKR-ND; Supplier 4: Newark; Supplier Part Number 4: 99R2894; Supplier 5: Mouser; Supplier Part Number 5: 748-PACDN006MR; Packing: Tape and Reel; RoHS: Pb-Free; Mounting Technology: Surface Mount; ComponentLink1Description: Manufacturer URL; ComponentLink1URL: http://www.onsemi.com/; ComponentLink2Description: Datasheet; ComponentLink2URL: http://www.onsemi.com/pub_link/Collateral/PACDN006-D.PDF; ComponentLink3Description: Package Specification; ComponentLink3URL: http://www.onsemi.com/pub_link/Collateral/846A-02.PDF
footprint ONSC-MICRO-8-846A-02_V (SOP, 8-Leads, Body 3.1x3.1mm, Pitch 0.65mm)
pins: 1 CH1 "ESD Channel", 2 CH2 "ESD Channel", 3 VN (power) "Negative voltage supply rail", 4 CH3 "ESD Channel", 5 CH4 "ESD Channel", 6 CH5 "ESD Channel", 7 VP (power) "Positive voltage supply rail", 8 CH6 "ESD Channel"

## PACDN006SM
designator U?
6-Channel ESD Protection Array, 8-Pin SOIC, Pb-Free, Tape and Reel; Manufacturer: On Semiconductor; PartNumber: PACDN006SM; C Max (pF): 5; Direction: Unidirectional; IR Max (uA): 1; Number of Lines: 6; PPK Max (W): 0.2; DatasheetVersion: Rev. 5; PackageVersion: Rev. O, 12/2008; PackageReference: SOIC-8-751BD-01; PackageDescription: 8-Pin Small Outline Integrated Circuit, Body 4.9 x 3.9 mm, Pitch 1.27 mm; Supplier 1: Mouser; Supplier Part Number 1: N/A; Packing: Tape and Reel; RoHS: Pb-Free; Mounting Technology: Surface Mount; Code_JEDEC: MS-012; ComponentLink1Description: Manufacturer URL; ComponentLink1URL: http://www.onsemi.com/; ComponentLink2Description: Datasheet; ComponentLink2URL: http://www.onsemi.com/pub_link/Collateral/PACDN006-D.PDF; ComponentLink3Description: Package Specification; ComponentLink3URL: http://www.onsemi.com/pub_link/Collateral/751BD.PDF
footprint ONSC-SOIC-8-751BD-01_N (SOIC, 8-Leads, Body 5x4mm, Pitch 1.27mm, IPC Medium Density)
footprint ONSC-SOIC-8-751BD-01_L (SOIC, 8-Leads, Body 5x4mm, Pitch 1.27mm, IPC High Density)
footprint ONSC-SOIC-8-751BD-01_M (SOIC, 8-Leads, Body 5x4mm, Pitch 1.27mm, IPC Low Density)
pins: 1 CH1 "ESD Channel", 2 CH2 "ESD Channel", 3 VN (power) "Negative voltage supply rail", 4 CH3 "ESD Channel", 5 CH4 "ESD Channel", 6 CH5 "ESD Channel", 7 VP (power) "Positive voltage supply rail", 8 CH6 "ESD Channel"

## PACDN009MR
designator U?
5-Channel ESD Protection Array, 8-Pin MICRO, Pb-Free, Tape and Reel; Manufacturer: On Semiconductor; PartNumber: PACDN009MR; C Max (pF): 5; Direction: Unidirectional; IR Max (uA): 1; PPK Max (W): 0.2; DatasheetVersion: Rev. 4; PackageVersion: Rev. J, 07/2013; PackageReference: MICRO-8-846A-02; PackageDescription: 8-Pin Small Outline Pacakge, Body 3 x 3 mm, Pitch 0.65 mm; Supplier 1: Digi-Key; Supplier Part Number 1: PACDN009MR-ND; Supplier 2: Mouser; Supplier Part Number 2: 748-PACDN009MR; Number of Lines: 5; Packing: Tape and Reel; RoHS: Pb-Free; Mounting Technology: Surface Mount; ComponentLink1Description: Manufacturer URL; ComponentLink1URL: http://www.onsemi.com/; ComponentLink2Description: Datasheet; ComponentLink2URL: http://www.onsemi.com/pub_link/Collateral/PACDN009-D.PDF; ComponentLink3Description: Package Specification; ComponentLink3URL: http://www.onsemi.com/pub_link/Collateral/846A-02.PDF
footprint ONSC-MICRO-8-846A-02_V (SOP, 8-Leads, Body 3.1x3.1mm, Pitch 0.65mm)
pins: 1 CH1 "ESD Channel", 2 NC "No Connect", 3 VN (power) "Negative Voltage Supply Rail or Ground Reference Rail", 4 CH2 "ESD Channel", 5 CH3 "ESD Channel", 6 CH4 "ESD Channel", 7 VP (power) "Positive Voltage Supply Rail", 8 CH5 "ESD Channel"

## PACDN042Y3-LF
designator D?
Transient Voltage Suppressor and ESD Protector, 3-Pin SOT-23, Pb-Free, Tape and Reel; Manufacturer: On Semiconductor; PartNumber: PACDN042Y3-LF; Direction: Unidirectional; Number of Lines: 2; PPK Max (W): 0.225; DatasheetVersion: Rev. 5; PackageVersion: Rev. O, 12/2008; PackageReference: SOT-23-3-527AG-01; PackageDescription: 3-Pin Small Outline Transistor, Body 2.92 x 1.3 mm, Pitch 0.95 mm; Packing: Tape and Reel; RoHS: Pb-Free; Mounting Technology: Surface Mount; Code_JEDEC: TO-236; ComponentLink1Description: Manufacturer URL; ComponentLink1URL: http://www.onsemi.com/; ComponentLink2Description: Datasheet; ComponentLink2URL: http://www.onsemi.com/pub_link/Collateral/PACDN042-D.PDF; ComponentLink3Description: Package Specification; ComponentLink3URL: http://www.onsemi.com/pub_link/Collateral/527AG.PDF
footprint ONSC-SOT-23-3-527AG-01_N (SOT23, 3-Leads, Body 3.04x1.4mm, Pitch 0.95mm, IPC Medium Density)
footprint ONSC-SOT-23-3-527AG-01_L (SOT23, 3-Leads, Body 3.04x1.4mm, Pitch 0.95mm, IPC High Density)
footprint ONSC-SOT-23-3-527AG-01_M (SOT23, 3-Leads, Body 3.04x1.4mm, Pitch 0.95mm, IPC Low Density)
pins: 1 TVS CATHODE "The cathode of the respective TVS diode, which should be connected to the node requiring transient voltage protection.", 2 TVS CATHODE "The cathode of the respective TVS diode, which should be connected to the node requiring transient voltage protection.", 3 GND (power) "The anode of the TVS diodes."

## PACDN042Y3R
designator D?
Transient Voltage Suppressor and ESD Protector, 3-Pin SOT-23, Pb-Free, Tape and Reel; Manufacturer: On Semiconductor; PartNumber: PACDN042Y3R; Direction: Unidirectional; Number of Lines: 2; PPK Max (W): 0.225; DatasheetVersion: Rev. 5; PackageVersion: Rev. AP, 11/2009; PackageReference: SOT-23-3-318-08; PackageDescription: 3-Pin Small Outline Transistor, Body 2.92 x 1.3 mm, Pitch 0.95 mm; Supplier 1: Digi-Key; Supplier Part Number 1: PACDN042Y3ROSTR-ND; Supplier 2: Digi-Key; Supplier Part Number 2: PACDN042Y3ROSCT-ND; Supplier 3: Digi-Key; Supplier Part Number 3: PACDN042Y3ROSDKR-ND; Supplier 4: Farnell; Supplier Part Number 4: 2317483; Supplier 5: Newark; Supplier Part Number 5: 90W9362; Supplier 6: Newark; Supplier Part Number 6: 99R2897; Supplier 7: Mouser; Supplier Part Number 7: 748-PACDN042Y3R; Packing: Tape and Reel; RoHS: Pb-Free; Mounting Technology: Surface Mount; ComponentLink1Description: Manufacturer URL; ComponentLink1URL: http://www.onsemi.com/; ComponentLink2Description: Datasheet; ComponentLink2URL: http://www.onsemi.com/pub_link/Collateral/PACDN042-D.PDF; ComponentLink3Description: Package Specification; ComponentLink3URL: http://www.onsemi.cn/pub_link/Collateral/318-08.PDF
footprint ONSC-SOT-23-3-318-08_V (SOT23, 3-Leads, Body 2.92x1.3mm, Pitch 0.95mm)
pins: 1 TVS CATHODE "The cathode of the respective TVS diode, which should be connected to the node requiring transient voltage protection.", 2 TVS CATHODE "The cathode of the respective TVS diode, which should be connected to the node requiring transient voltage protection.", 3 GND (power) "The anode of the TVS diodes."

## PACDN042YB3-LF
designator D?
Transient Voltage Suppressor and ESD Protector, 3-Pin SC70, Pb-Free, Tape and Reel; Manufacturer: On Semiconductor; PartNumber: PACDN042YB3-LF; Direction: Unidirectional; Number of Lines: 2; PPK Max (W): 0.225; DatasheetVersion: Rev. 5; PackageVersion: Rev. O, 12/2008; PackageReference: SC-70-3-419AB-01; Packing: Tape and Reel; RoHS: Pb-Free; Mounting Technology: Surface Mount; Code_JEDEC: MO-203; ComponentLink1Description: Manufacturer URL; ComponentLink1URL: http://www.onsemi.com/; ComponentLink2Description: Datasheet; ComponentLink2URL: http://www.onsemi.com/pub_link/Collateral/PACDN042-D.PDF; ComponentLink3Description: Package Specification; ComponentLink3URL: http://www.onsemi.com/pub_link/Collateral/419AB.PDF
footprint ONSC-SC-70-3-419AB-01_N (SOT23, 3-Leads, Body 2.2x1.35mm, Pitch 0.65mm, IPC Medium Density)
footprint ONSC-SC-70-3-419AB-01_L (SOT23, 3-Leads, Body 2.2x1.35mm, Pitch 0.65mm, IPC High Density)
footprint ONSC-SC-70-3-419AB-01_M (SOT23, 3-Leads, Body 2.2x1.35mm, Pitch 0.65mm, IPC Low Density)
pins: 1 TVS CATHODE "The cathode of the respective TVS diode, which should be connected to the node requiring transient voltage protection.", 2 TVS CATHODE "The cathode of the respective TVS diode, which should be connected to the node requiring transient voltage protection.", 3 GND (power) "The anode of the TVS diodes."

## PACDN042YB3R
designator D?
Transient Voltage Suppressor and ESD Protector, 3-Pin SC70, Pb-Free, Tape and Reel; Manufacturer: On Semiconductor; PartNumber: PACDN042YB3R; Direction: Unidirectional; Number of Lines: 2; PPK Max (W): 0.225; DatasheetVersion: Rev. 5; PackageVersion: Rev. O, 12/2008; PackageReference: SC-70-3-419AB-01; Supplier 1: Digi-Key; Supplier Part Number 1: PACDN042YB3R-ND; Packing: Tape and Reel; RoHS: Pb-Free; Mounting Technology: Surface Mount; Code_JEDEC: MO-203; ComponentLink1Description: Manufacturer URL; ComponentLink1URL: http://www.onsemi.com/; ComponentLink2Description: Datasheet; ComponentLink2URL: http://www.onsemi.com/pub_link/Collateral/PACDN042-D.PDF; ComponentLink3Description: Package Specification; ComponentLink3URL: http://www.onsemi.com/pub_link/Collateral/419AB.PDF
footprint ONSC-SC-70-3-419AB-01_N (SOT23, 3-Leads, Body 2.2x1.35mm, Pitch 0.65mm, IPC Medium Density)
footprint ONSC-SC-70-3-419AB-01_L (SOT23, 3-Leads, Body 2.2x1.35mm, Pitch 0.65mm, IPC High Density)
footprint ONSC-SC-70-3-419AB-01_M (SOT23, 3-Leads, Body 2.2x1.35mm, Pitch 0.65mm, IPC Low Density)
pins: 1 TVS CATHODE "The cathode of the respective TVS diode, which should be connected to the node requiring transient voltage protection.", 2 TVS CATHODE "The cathode of the respective TVS diode, which should be connected to the node requiring transient voltage protection.", 3 GND (power) "The anode of the TVS diodes."

## PACDN043-LF
designator U?
Transient Voltage Suppressor and ESD Protector, 4-Pin SOT-143, Pb-Free, Tape and Reel; Manufacturer: On Semiconductor; PartNumber: PACDN043-LF; Direction: Unidirectional; Number of Lines: 3; PPK Max (W): 0.225; DatasheetVersion: Rev. 5; PackageVersion: Rev. A, 03/2009; PackageReference: SOT-143-4-527AF-01; PackageDescription: 4-Pin Small Outline Transistor, Body 2.92 x 1.3 mm, Pitch 1.92 mm; Packing: Tape and Reel; RoHS: Pb-Free; Mounting Technology: Surface Mount; Code_JEDEC: TO-253; ComponentLink1Description: Manufacturer URL; ComponentLink1URL: http://www.onsemi.com/; ComponentLink2Description: Datasheet; ComponentLink2URL: http://www.onsemi.com/pub_link/Collateral/PACDN042-D.PDF; ComponentLink3Description: Package Specification; ComponentLink3URL: http://www.onsemi.com/pub_link/Collateral/527AF.PDF
footprint ONSC-SOT-143-4-527AF-01_N (SOT143, 4-Leads, Body 3.04x1.4mm, Pitch 1.92mm, IPC Medium Density)
footprint ONSC-SOT-143-4-527AF-01_L (SOT143, 4-Leads, Body 3.04x1.4mm, Pitch 1.92mm, IPC High Density)
footprint ONSC-SOT-143-4-527AF-01_M (SOT143, 4-Leads, Body 3.04x1.4mm, Pitch 1.92mm, IPC Low Density)
pins: 1 GND (power) "The anode of the TVS diodes.", 2 TVS CATHODE "The cathode of the respective TVS diode, which should be connected to the node requiring transient voltage protection.", 3 TVS CATHODE "The cathode of the respective TVS diode, which should be connected to the node requiring transient voltage protection.", 4 TVS CATHODE "The cathode of the respective TVS diode, which should be connected to the node requiring transient voltage protection."

## PACDN043Y4R
designator U?
Transient Voltage Suppressor and ESD Protector, 4-Pin SOT-143, Pb-Free, Tape and Reel; Manufacturer: On Semiconductor; PartNumber: PACDN043Y4R; Direction: Unidirectional; Number of Lines: 3; PPK Max (W): 0.225; DatasheetVersion: Rev. 5; PackageVersion: Rev. A, 03/2009; PackageReference: SOT-143-4-527AF-01; PackageDescription: 4-Pin Small Outline Transistor, Body 2.92 x 1.3 mm, Pitch 1.92 mm; Supplier 1: Digi-Key; Supplier Part Number 1: PACDN043Y4R-ND; Packing: Tape and Reel; RoHS: Pb-Free; Mounting Technology: Surface Mount; Code_JEDEC: TO-253; ComponentLink1Description: Manufacturer URL; ComponentLink1URL: http://www.onsemi.com/; ComponentLink2Description: Datasheet; ComponentLink2URL: http://www.onsemi.com/pub_link/Collateral/PACDN042-D.PDF; ComponentLink3Description: Package Specification; ComponentLink3URL: http://www.onsemi.com/pub_link/Collateral/527AF.PDF
footprint ONSC-SOT-143-4-527AF-01_N (SOT143, 4-Leads, Body 3.04x1.4mm, Pitch 1.92mm, IPC Medium Density)
footprint ONSC-SOT-143-4-527AF-01_L (SOT143, 4-Leads, Body 3.04x1.4mm, Pitch 1.92mm, IPC High Density)
footprint ONSC-SOT-143-4-527AF-01_M (SOT143, 4-Leads, Body 3.04x1.4mm, Pitch 1.92mm, IPC Low Density)
pins: 1 GND (power) "The anode of the TVS diodes.", 2 TVS CATHODE "The cathode of the respective TVS diode, which should be connected to the node requiring transient voltage protection.", 3 TVS CATHODE "The cathode of the respective TVS diode, which should be connected to the node requiring transient voltage protection.", 4 TVS CATHODE "The cathode of the respective TVS diode, which should be connected to the node requiring transient voltage protection."

## PACDN044-LF
designator U?
Transient Voltage Suppressor and ESD Protector, 5-Pin SOT-23, Pb-Free, Tape and Reel; Manufacturer: On Semiconductor; PartNumber: PACDN044-LF; Direction: Unidirectional; Number of Lines: 4; PPK Max (W): 0.225; DatasheetVersion: Rev. 5; PackageVersion: Rev. O, 12/2008; PackageReference: SOT23-5-527AH-01; PackageDescription: 5-Pin Small Outline Transistor, Body 2.9 x 1.6 mm, Pitch 0.95 mm; Packing: Tape and Reel; RoHS: Pb-Free; Mounting Technology: Surface Mount; Code_JEDEC: MO-178; ComponentLink1Description: Manufacturer URL; ComponentLink1URL: http://www.onsemi.com/; ComponentLink2Description: Datasheet; ComponentLink2URL: http://www.onsemi.com/pub_link/Collateral/PACDN042-D.PDF; ComponentLink3Description: Package Specification; ComponentLink3URL: http://www.onsemi.com/pub_link/Collateral/527AH.PDF
footprint ONSC-SOT23-5-527AH-01_N (SOT23, 5-Leads, Body 2.9x1.6mm, Pitch 0.95mm, IPC Medium Density)
footprint ONSC-SOT23-5-527AH-01_L (SOT23, 5-Leads, Body 2.9x1.6mm, Pitch 0.95mm, IPC High Density)
footprint ONSC-SOT23-5-527AH-01_M (SOT23, 5-Leads, Body 2.9x1.6mm, Pitch 0.95mm, IPC Low Density)
pins: 1 TVS CATHODE "The cathode of the respective TVS diode, which should be connected to the node requiring transient voltage protection.", 2 GND (power) "The anode of the TVS diodes.", 3 TVS CATHODE "The cathode of the respective TVS diode, which should be connected to the node requiring transient voltage protection.", 4 TVS CATHODE "The cathode of the respective TVS diode, which should be connected to the node requiring transient voltage protection.", 5 TVS CATHODE "The cathode of the respective TVS diode, which should be connected to the node requiring transient voltage protection."

## PACDN044TR
designator D?
Transient Voltage Suppressor and ESD Protector, 8-Pin TSSOP, Pb-Free, Tape and Reel; Manufacturer: On Semiconductor; PartNumber: PACDN044TR; Direction: Unidirectional; Number of Lines: 4; PPK Max (W): 0.225; DatasheetVersion: Rev. 5; PackageVersion: Rev. O, 12/2008; PackageReference: TSSOP-8-948AL-01; PackageDescription: 8-Pin Small Outline Package, Body 4.4 x 3 mm, Pitch 0.65 mm; Supplier 1: Digi-Key; Supplier Part Number 1: PACDN044TR-ND; Packing: Tape and Reel; RoHS: Pb-Free; Mounting Technology: Surface Mount; Code_JEDEC: MO-153; ComponentLink1Description: Manufacturer URL; ComponentLink1URL: http://www.onsemi.com/; ComponentLink2Description: Datasheet; ComponentLink2URL: http://www.onsemi.com/pub_link/Collateral/PACDN042-D.PDF; ComponentLink3Description: Package Specification; ComponentLink3URL: http://www.onsemi.com/pub/Collateral/948AL.PDF
footprint ONSC-TSSOP-8-948AL-01_N (SOP, 8-Leads, Body 4.5x3.1mm, Pitch 0.65mm, IPC Medium Density)
footprint ONSC-TSSOP-8-948AL-01_L (SOP, 8-Leads, Body 4.5x3.1mm, Pitch 0.65mm, IPC High Density)
footprint ONSC-TSSOP-8-948AL-01_M (SOP, 8-Leads, Body 4.5x3.1mm, Pitch 0.65mm, IPC Low Density)
pins: 1 GND (power), 2 TVS CATHODE, 3 GND (power), 4 TVS CATHODE, 5 GND (power), 6 TVS CATHODE, 7 GND (power), 8 TVS CATHODE

## PACDN044Y5R
designator U?
Transient Voltage Suppressor and ESD Protector, 5-Pin SOT-23, Pb-Free, Tape and Reel; Manufacturer: On Semiconductor; PartNumber: PACDN044Y5R; Direction: Unidirectional; Number of Lines: 4; PPK Max (W): 0.225; DatasheetVersion: Rev. 5; PackageVersion: Rev. O, 12/2008; PackageReference: SOT23-5-527AH-01; PackageDescription: 5-Pin Small Outline Transistor, Body 2.9 x 1.6 mm, Pitch 0.95 mm; Supplier 1: Digi-Key; Supplier Part Number 1: PACDN044Y5R-ND; Packing: Tape and Reel; RoHS: Pb-Free; Mounting Technology: Surface Mount; Code_JEDEC: MO-178; ComponentLink1Description: Manufacturer URL; ComponentLink1URL: http://www.onsemi.com/; ComponentLink2Description: Datasheet; ComponentLink2URL: http://www.onsemi.com/pub_link/Collateral/PACDN042-D.PDF; ComponentLink3Description: Package Specification; ComponentLink3URL: http://www.onsemi.com/pub_link/Collateral/527AH.PDF
footprint ONSC-SOT23-5-527AH-01_N (SOT23, 5-Leads, Body 2.9x1.6mm, Pitch 0.95mm, IPC Medium Density)
footprint ONSC-SOT23-5-527AH-01_L (SOT23, 5-Leads, Body 2.9x1.6mm, Pitch 0.95mm, IPC High Density)
footprint ONSC-SOT23-5-527AH-01_M (SOT23, 5-Leads, Body 2.9x1.6mm, Pitch 0.95mm, IPC Low Density)
pins: 1 TVS CATHODE "The cathode of the respective TVS diode, which should be connected to the node requiring transient voltage protection.", 2 GND (power) "The anode of the TVS diodes.", 3 TVS CATHODE "The cathode of the respective TVS diode, which should be connected to the node requiring transient voltage protection.", 4 TVS CATHODE "The cathode of the respective TVS diode, which should be connected to the node requiring transient voltage protection.", 5 TVS CATHODE "The cathode of the respective TVS diode, which should be connected to the node requiring transient voltage protection."

## PACDN044YB5-LF
designator U?
Transient Voltage Suppressor and ESD Protector, 5-Pin SC70, Pb-Free, Tape and Reel; Manufacturer: On Semiconductor; PartNumber: PACDN044YB5-LF; Direction: Unidirectional; Number of Lines: 4; PPK Max (W): 0.225; DatasheetVersion: Rev. 5; PackageVersion: Rev. A, 06/2010; PackageReference: SC70-5-419AC-01; PackageDescription: 5-Pin Small Outline Transistor, Body 1.25 x 2 mm, Pitch 0.65 mm; Packing: Tape and Reel; RoHS: Pb-Free; Mounting Technology: Surface Mount; Code_JEDEC: MO-203; ComponentLink1Description: Manufacturer URL; ComponentLink1URL: http://www.onsemi.com/; ComponentLink2Description: Datasheet; ComponentLink2URL: http://www.onsemi.com/pub_link/Collateral/PACDN042-D.PDF; ComponentLink3Description: Package Specification; ComponentLink3URL: http://www.onsemi.com/pub_link/Collateral/419AC.PDF
footprint ONSC-SC70-5-419AC-01_N (SOT23, 5-Leads, Body 2.2x1.35mm, Pitch 0.65mm, IPC Medium Density)
footprint ONSC-SC70-5-419AC-01_L (SOT23, 5-Leads, Body 2.2x1.35mm, Pitch 0.65mm, IPC High Density)
footprint ONSC-SC70-5-419AC-01_M (SOT23, 5-Leads, Body 2.2x1.35mm, Pitch 0.65mm, IPC Low Density)
pins: 1 TVS CATHODE "The cathode of the respective TVS diode, which should be connected to the node requiring transient voltage protection.", 2 GND (power) "The anode of the TVS diodes.", 3 TVS CATHODE "The cathode of the respective TVS diode, which should be connected to the node requiring transient voltage protection.", 4 TVS CATHODE "The cathode of the respective TVS diode, which should be connected to the node requiring transient voltage protection.", 5 TVS CATHODE "The cathode of the respective TVS diode, which should be connected to the node requiring transient voltage protection."